# Altium footprint library WS-TASV.PcbLib: 30 footprints (part 1 of 2)
Each footprint in its own frame and in the unit in brackets; x right, y up, seen from the top. Pads: shape width x height; smd on the part's side, far side on the other; paste and mask are expansions set on the pad; w line width, h text height; cw(c..) or ccw(c..) is an arc to the next point about the centre after c.
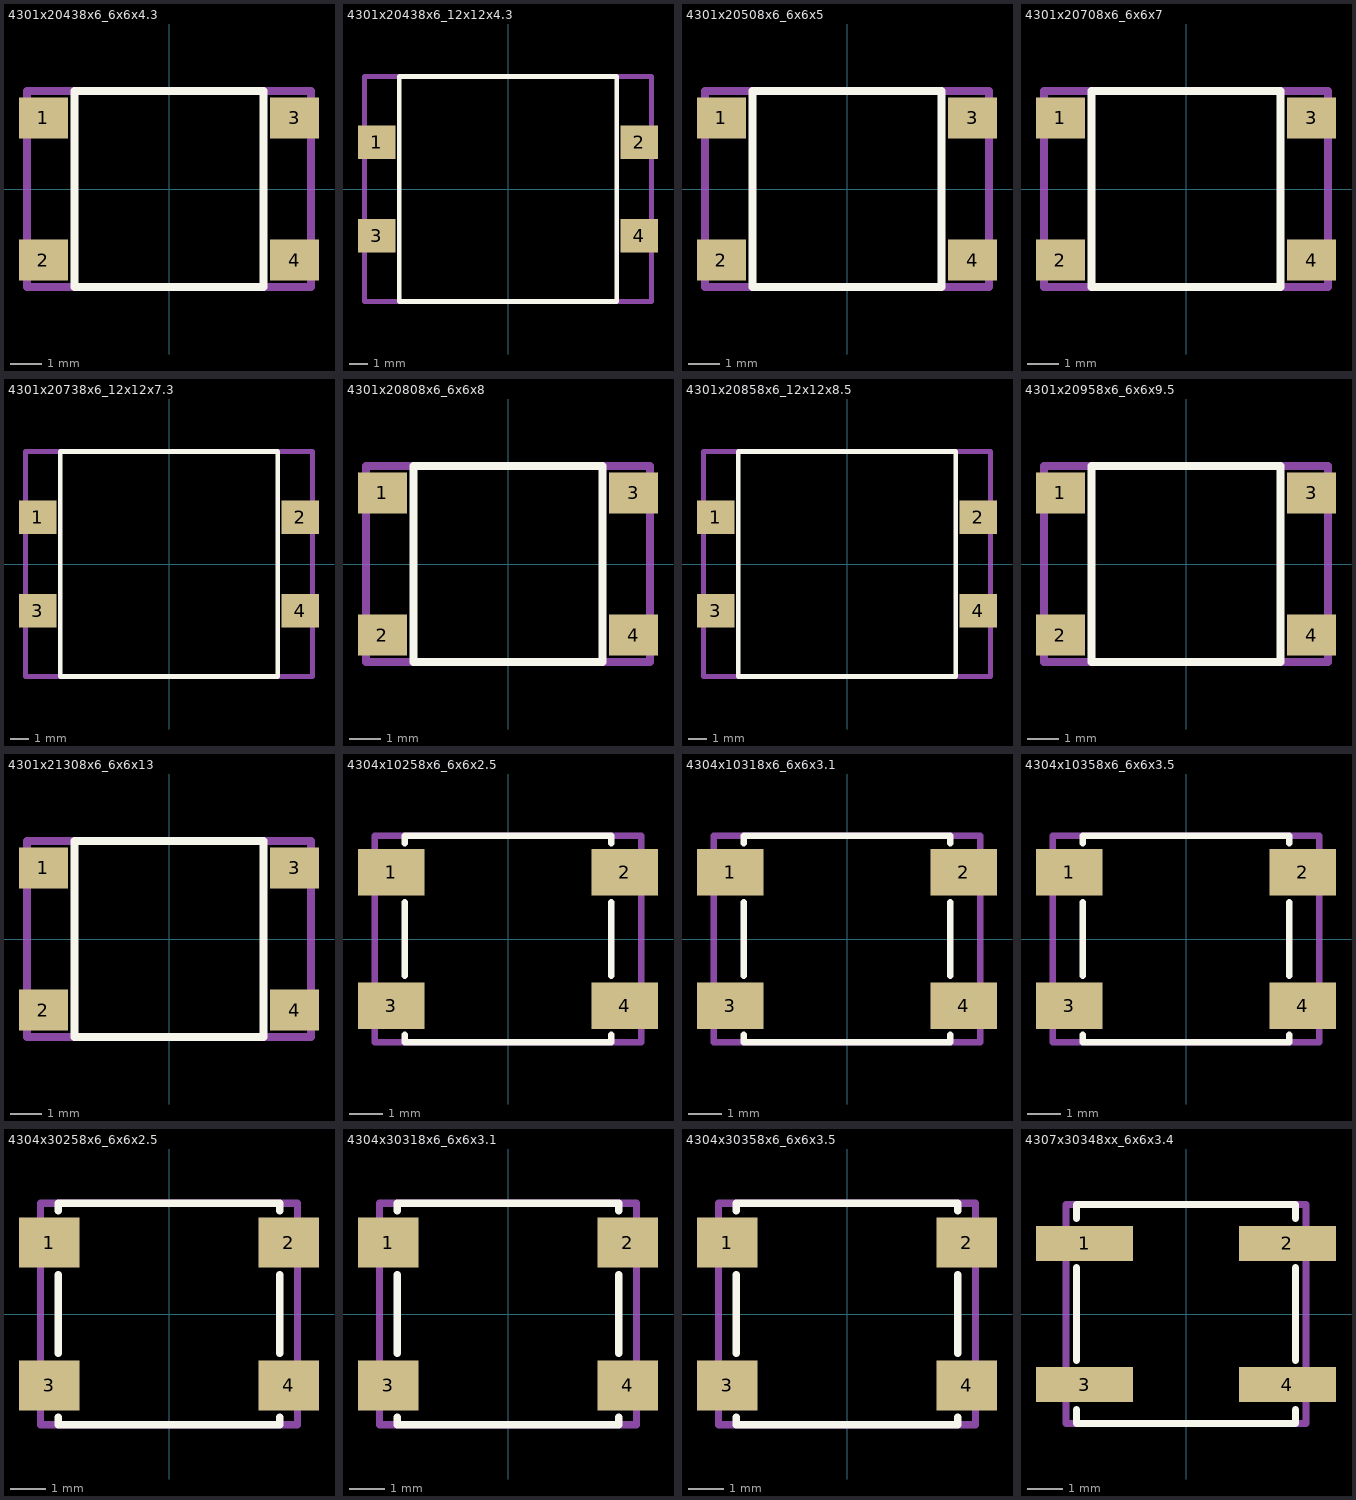
[diagram p0: the footprints below, top view; thin cyan lines are the x and y axes]

## 4301x20438x6_6x6x4.3 [mm] "6x6mm Tact Switch, SMD version"
height 4.3
pads (4):
  rect 1.55x1.3 smd: 1(-3.975,2.25) 2(-3.975,-2.25) 3(3.975,2.25) 4(3.975,-2.25)
Top Overlay:
  lines w0.254: -3,-3.1 -3,3.1 3,3.1 3,-3.1 -3,-3.1
Mechanical 13:
  lines w0.254: -4.5,-3.1 4.5,-3.1 4.5,3.1 -4.5,3.1 -4.5,-3.1
3D body "4301x20438x6.stp": height 4.32, standoff 0.02, extent -4.5,-3.1 4.5,3.1

## 4301x20438x6_12x12x4.3 [mm] "12x12 mm Tact Switch, SMD version"
height 4.3
pads (4):
  rect 2x1.8 smd: 1(-7,2.5) 2(7,2.5) 3(-7,-2.5) 4(7,-2.5)
Top Overlay:
  lines w0.254: -5.8,-6 5.8,-6 5.8,6 -5.8,6 -5.8,-6
Mechanical 13:
  lines w0.254: -7.65,-6 7.65,-6 7.65,6 -7.65,6 -7.65,-6
3D body "4301x20438x6.stp": height 4.38, standoff 0.07, extent -7.65,-6 7.65,6

## 4301x20508x6_6x6x5 [mm] "6x6mm Tact Switch, SMD version"
height 5
pads (4):
  rect 1.55x1.3 smd: 1(-3.975,2.25) 2(-3.975,-2.25) 3(3.975,2.25) 4(3.975,-2.25)
Top Overlay:
  lines w0.254: -3,-3.1 -3,3.1 3,3.1 3,-3.1 -3,-3.1
Mechanical 13:
  lines w0.254: -4.5,-3.1 4.5,-3.1 4.5,3.1 -4.5,3.1 -4.5,-3.1
3D body "4301x20508x6.stp": height 5.02, standoff 0.02, extent -4.5,-3.1 4.5,3.1

## 4301x20708x6_6x6x7 [mm] "6x6mm Tact Switch, SMD version"
height 7
pads (4):
  rect 1.55x1.3 smd: 1(-3.975,2.25) 2(-3.975,-2.25) 3(3.975,2.25) 4(3.975,-2.25)
Top Overlay:
  lines w0.254: -3,-3.1 3,-3.1 3,3.1 -3,3.1 -3,-3.1
Mechanical 13:
  lines w0.254: -4.5,-3.1 -4.5,3.1 4.5,3.1 4.5,-3.1 -4.5,-3.1
3D body "4301x20708x6.stp": height 7.02, standoff 0.02, extent -4.5,-3.1 4.5,3.1

## 4301x20738x6_12x12x7.3 [mm] "12x12 mm Tact Switch, SMD version"
height 7.3
pads (4):
  rect 2x1.8 smd: 1(-7,2.5) 2(7,2.5) 3(-7,-2.5) 4(7,-2.5)
Top Overlay:
  lines w0.254: -5.8,-6 5.8,-6 5.8,6 -5.8,6 -5.8,-6
Mechanical 13:
  lines w0.254: -7.65,-6 7.65,-6 7.65,6 -7.65,6 -7.65,-6
3D body "4301x20738x6.stp": height 7.37, standoff 0.07, extent -7.65,-6 7.65,6

## 4301x20808x6_6x6x8 [mm] "6x6mm Tact Switch, SMD version"
height 8
pads (4):
  rect 1.55x1.3 smd: 1(-3.975,2.25) 2(-3.975,-2.25) 3(3.975,2.25) 4(3.975,-2.25)
Top Overlay:
  lines w0.254: -3,-3.1 -3,3.1 3,3.1 3,-3.1 -3,-3.1
Mechanical 13:
  lines w0.254: -4.5,-3.1 4.5,-3.1 4.5,3.1 -4.5,3.1 -4.5,-3.1
3D body "4301x20808x6.stp": height 8.03, standoff 0.03, extent -4.5,-3.1 4.5,3.1

## 4301x20858x6_12x12x8.5 [mm] "12x12 mm Tact Switch, SMD version"
height 8.5
pads (4):
  rect 2x1.8 smd: 1(-7,2.5) 2(7,2.5) 3(-7,-2.5) 4(7,-2.5)
Top Overlay:
  lines w0.254: -5.8,-6 5.8,-6 5.8,6 -5.8,6 -5.8,-6
Mechanical 13:
  lines w0.254: -7.65,-6 7.65,-6 7.65,6 -7.65,6 -7.65,-6
3D body "4301x20858x6.stp": height 8.57, standoff 0.07, extent -7.65,-6 7.65,6

## 4301x20958x6_6x6x9.5 [mm] "6x6mm Tact Switch, SMD version"
height 9.5
pads (4):
  rect 1.55x1.3 smd: 1(-3.975,2.25) 2(-3.975,-2.25) 3(3.975,2.25) 4(3.975,-2.25)
Top Overlay:
  lines w0.254: -3,-3.1 3,-3.1 3,3.1 -3,3.1 -3,-3.1
Mechanical 13:
  lines w0.254: -4.5,-3.1 -4.5,3.1 4.5,3.1 4.5,-3.1 -4.5,-3.1
3D body "4301x20958x6.stp": height 9.53, standoff 0.03, extent -4.5,-3.1 4.5,3.1

## 4301x21308x6_6x6x13 [mm] "6x6mm Tact Switch, SMD version"
height 13
pads (4):
  rect 1.55x1.3 smd: 1(-3.975,2.25) 2(-3.975,-2.25) 3(3.975,2.25) 4(3.975,-2.25)
Top Overlay:
  lines w0.254: -3,-3.1 -3,3.1 3,3.1 3,-3.1 -3,-3.1
Mechanical 13:
  lines w0.254: -4.5,-3.1 4.5,-3.1 4.5,3.1 -4.5,3.1 -4.5,-3.1
3D body "4301x21308x6.stp": height 13.03, standoff 0.03, extent -4.5,-3.1 4.5,3.1

## 4304x10258x6_6x6x2.5 [mm] "6x6mm washable Tact Switch, SMD version"
height 2.5
pads (4):
  rect 2x1.4 smd: 1(-3.5,2) 2(3.5,2) 3(-3.5,-2) 4(3.5,-2)
Top Overlay:
  lines w0.2: -3.1,-2.88 -3.1,-3.1 3.1,-3.1 3.1,-2.88 ; -3.1,-1.1 -3.1,1.1 ; -3.1,2.88 -3.1,3.1 3.1,3.1 3.1,2.88 ; 3.1,-1.1 3.1,1.1
Mechanical 13:
  lines w0.2: -4,-3.1 4,-3.1 4,3.1 -4,3.1 -4,-3.1
3D body "4304x10258x6.stp": height 2.53, standoff 0.03, extent -4,-3.1 4,3.1

## 4304x10318x6_6x6x3.1 [mm] "6x6mm washable Tact Switch, SMD version"
height 3.1
pads (4):
  rect 2x1.4 smd: 1(-3.5,2) 2(3.5,2) 3(-3.5,-2) 4(3.5,-2)
Top Overlay:
  lines w0.2: -3.1,-2.88 -3.1,-3.1 3.1,-3.1 3.1,-2.88 ; -3.1,-1.1 -3.1,1.1 ; -3.1,2.88 -3.1,3.1 3.1,3.1 3.1,2.88 ; 3.1,-1.1 3.1,1.1
Mechanical 13:
  lines w0.2: -4,-3.1 -4,3.1 4,3.1 4,-3.1 -4,-3.1
3D body "4304x10318x6.stp": height 3.13, standoff 0.03, extent -4,-3.1 4,3.1

## 4304x10358x6_6x6x3.5 [mm] "6x6mm washable Tact Switch, SMD version"
height 3.5
pads (4):
  rect 2x1.4 smd: 1(-3.5,2) 2(3.5,2) 3(-3.5,-2) 4(3.5,-2)
Top Overlay:
  lines w0.2: -3.1,-2.88 -3.1,-3.1 3.1,-3.1 3.1,-2.88 ; -3.1,-1.1 -3.1,1.1 ; -3.1,2.88 -3.1,3.1 3.1,3.1 3.1,2.88 ; 3.1,-1.1 3.1,1.1
Mechanical 13:
  lines w0.2: -4,-3.1 -4,3.1 4,3.1 4,-3.1 -4,-3.1
3D body "4304x10358x6.stp": height 3.53, standoff 0.03, extent -4,-3.1 4,3.1

## 4304x30258x6_6x6x2.5 [mm] "6x6mm washable Tact Switch, J-Bend SMD version"
height 2.5
pads (4):
  rect 1.7x1.4 smd: 1(-3.35,2) 2(3.35,2) 3(-3.35,-2) 4(3.35,-2)
Top Overlay:
  lines w0.2: -3.1,-2.89 -3.1,-3.1 3.1,-3.1 3.1,-2.89 ; -3.1,-1.1 -3.1,1.1 ; -3.1,2.89 -3.1,3.1 3.1,3.1 3.1,2.89 ; 3.1,-1.1 3.1,1.1
Mechanical 13:
  lines w0.2: -3.6,-3.1 -3.6,3.1 3.6,3.1 3.6,-3.1 -3.6,-3.1
3D body "4304x30258x6.stp": height 2.52, standoff 0.02, extent -3.6,-3.1 3.6,3.1

## 4304x30318x6_6x6x3.1 [mm] "6x6mm washable Tact Switch, J-Bend SMD version"
height 3.1
pads (4):
  rect 1.7x1.4 smd: 1(-3.35,2) 2(3.35,2) 3(-3.35,-2) 4(3.35,-2)
Top Overlay:
  lines w0.2: -3.1,-2.89 -3.1,-3.1 3.1,-3.1 3.1,-2.89 ; -3.1,-1.1 -3.1,1.1 ; -3.1,2.89 -3.1,3.1 3.1,3.1 3.1,2.89 ; 3.1,-1.1 3.1,1.1
Mechanical 13:
  lines w0.2: -3.6,-3.1 3.6,-3.1 3.6,3.1 -3.6,3.1 -3.6,-3.1
3D body "4304x30318x6.stp": height 3.12, standoff 0.02, extent -3.6,-3.1 3.6,3.1

## 4304x30358x6_6x6x3.5 [mm] "6x6mm washable Tact Switch, J-Bend SMD version"
height 3.5
pads (4):
  rect 1.7x1.4 smd: 1(-3.35,2) 2(3.35,2) 3(-3.35,-2) 4(3.35,-2)
Top Overlay:
  lines w0.2: -3.1,-2.89 -3.1,-3.1 3.1,-3.1 3.1,-2.89 ; -3.1,-1.1 -3.1,1.1 ; -3.1,2.89 -3.1,3.1 3.1,3.1 3.1,2.89 ; 3.1,-1.1 3.1,1.1
Mechanical 13:
  lines w0.2: -3.6,-3.1 -3.6,3.1 3.6,3.1 3.6,-3.1 -3.6,-3.1
3D body "4304x30358x6.stp": height 3.52, standoff 0.02, extent -3.6,-3.1 3.6,3.1

## 4307x30348xx_6x6x3.4 [mm] "6x6 mm J-Hook SMD Hermetic Tact Switch"
height 3.4
pads (4):
  rect 2.75x1 smd: 1(-2.875,2) 2(2.875,2) 3(-2.875,-2) 4(2.875,-2)
Top Overlay:
  lines w0.2: -3.1,-2.7 -3.1,-3.1 3.1,-3.1 3.1,-2.7 ; -3.1,-1.31 -3.1,1.31 ; -3.1,2.7 -3.1,3.1 3.1,3.1 3.1,2.7 ; 3.1,-1.31 3.1,1.31
Mechanical 13:
  lines w0.2: -3.4,-3.1 3.4,-3.1 3.4,3.1 -3.4,3.1 -3.4,-3.1
3D body "4307x30xx8xx_3_4.stp": height 3.4, standoff 0, extent -3.4,-3.1 3.4,3.1